# Altium footprint library PH.PcbLib: 64 footprints (part 4 of 4)
Each footprint in its own frame and in the unit in brackets; x right, y up, seen from the top. Pads: shape width x height; smd on the part's side, far side on the other; paste and mask are expansions set on the pad; w line width, h text height; cw(c..) or ccw(c..) is an arc to the next point about the centre after c.
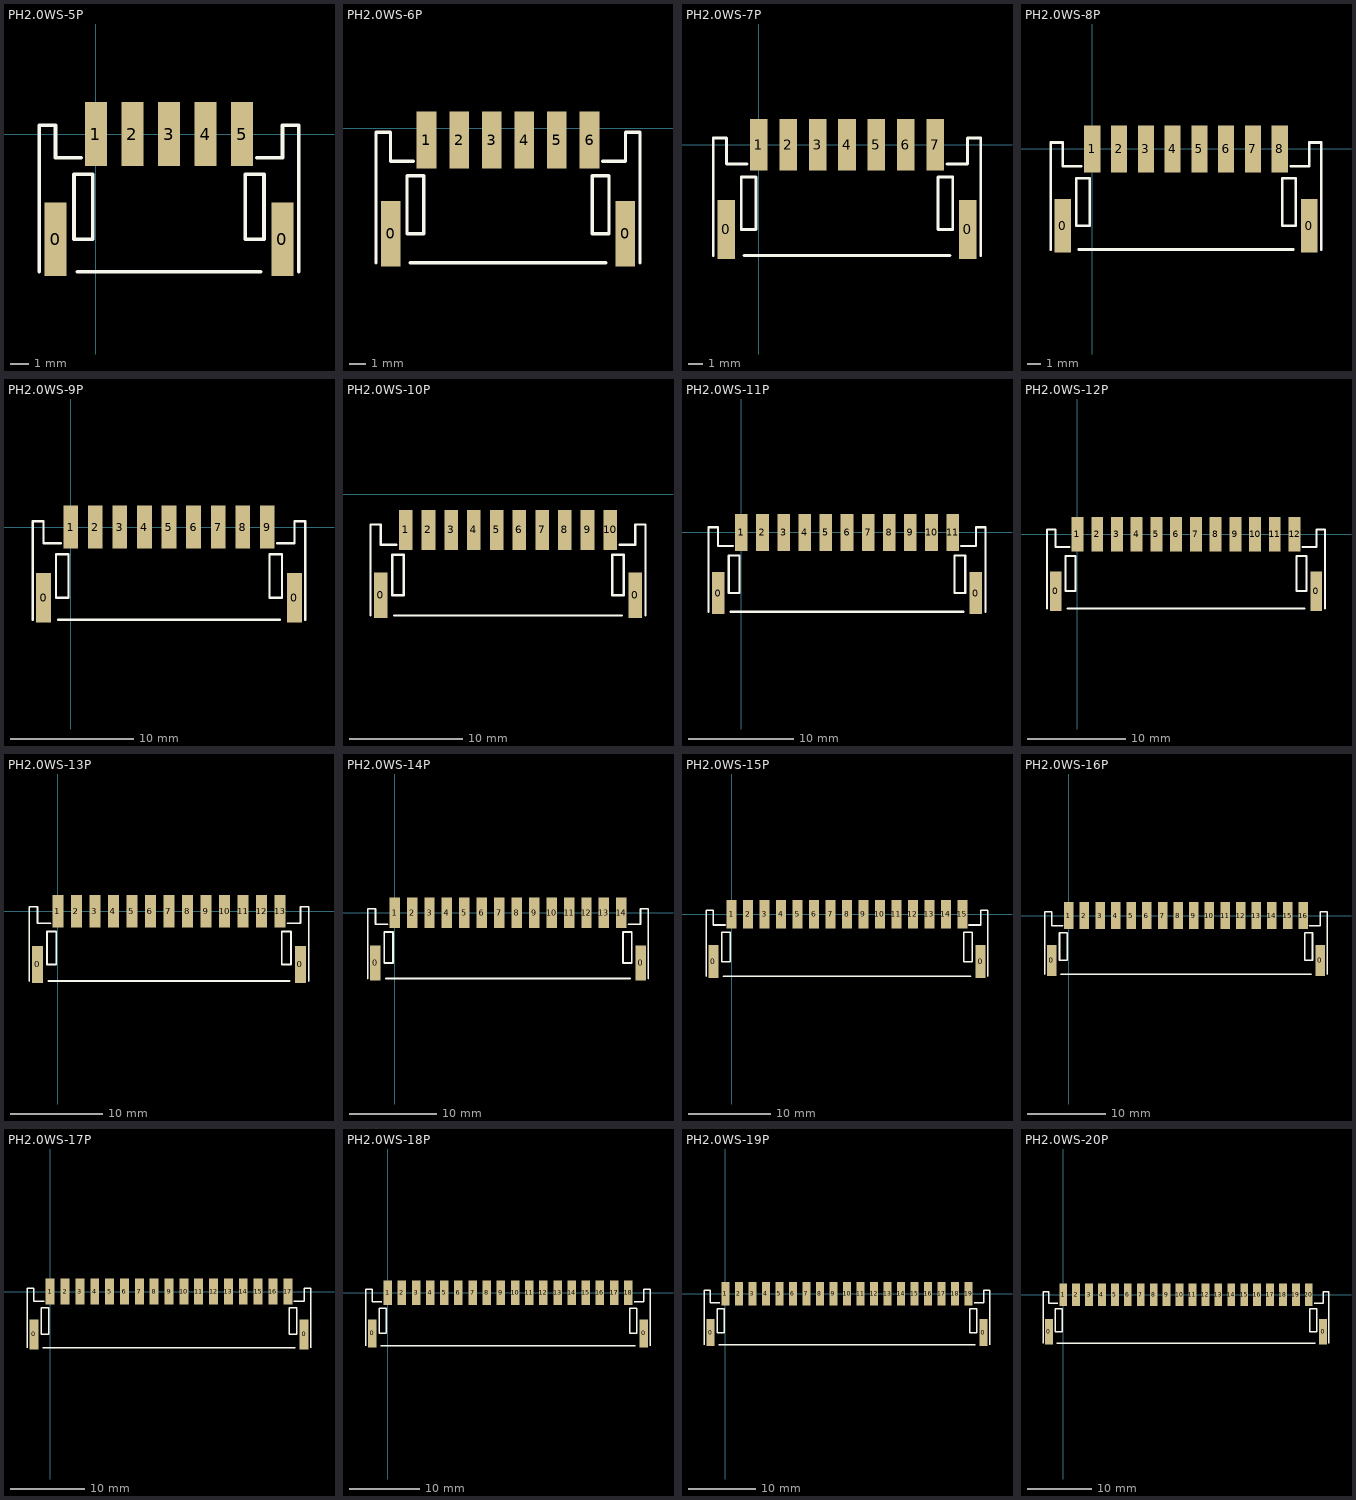
[diagram p3: the footprints below, top view; thin cyan lines are the x and y axes]

## PH2.0WS-5P [mm]
pads (7):
  rect 1.2x4 smd: 0(-2.2,-5.75) 0(10.2,-5.75)
  rect 1.2x3.5 smd: 1(0,0) 2(2,0) 3(4,0) 4(6,0) 5(8,0)
Top Overlay:
  lines w0.2: -3.096,-7.522 -3.096,0.479 -2.207,0.479 -2.207,-1.299 -0.81,-1.299 ; -1,-7.522 9,-7.522 ; 8.81,-1.299 10.207,-1.299 10.207,0.479 11.096,0.479 11.096,-7.522 ; -1.191,-5.744 -1.191,-2.188 -0.175,-2.188 -0.175,-5.744 -1.191,-5.744 ; 8.175,-5.744 8.175,-2.188 9.191,-2.188 9.191,-5.744 8.175,-5.744

## PH2.0WS-6P [mm]
pads (8):
  rect 1.2x4 smd: 0(3.214,-6.483) 0(17.614,-6.483)
  rect 1.2x3.5 smd: 1(5.414,-0.733) 2(7.414,-0.733) 3(9.414,-0.733) 4(11.414,-0.733) 5(13.414,-0.733) 6(15.414,-0.733)
Top Overlay:
  lines w0.2: 2.318,-8.255 2.318,-0.254 3.207,-0.254 3.207,-2.032 4.604,-2.032 ; 4.414,-8.255 16.414,-8.255 ; 16.224,-2.032 17.621,-2.032 17.621,-0.254 18.51,-0.254 18.51,-8.255 ; 4.223,-6.477 5.239,-6.477 5.239,-2.921 4.223,-2.921 4.223,-6.477 ; 15.589,-6.477 16.605,-6.477 16.605,-2.921 15.589,-2.921 15.589,-6.477

## PH2.0WS-7P [mm]
pads (9):
  rect 1.2x4 smd: 0(-2.2,-5.75) 0(14.2,-5.75)
  rect 1.2x3.5 smd: 1(0,0) 2(2,0) 3(4,0) 4(6,0) 5(8,0) 6(10,0) 7(12,0)
Top Overlay:
  lines w0.2: -3.096,-7.522 -3.096,0.479 -2.207,0.479 -2.207,-1.299 -0.81,-1.299 ; -1,-7.522 13,-7.522 ; 12.81,-1.299 14.207,-1.299 14.207,0.479 15.096,0.479 15.096,-7.522 ; -1.191,-5.744 -1.191,-2.188 -0.175,-2.188 -0.175,-5.744 -1.191,-5.744 ; 12.175,-5.744 12.175,-2.188 13.191,-2.188 13.191,-5.744 12.175,-5.744

## PH2.0WS-8P [mm]
pads (10):
  rect 1.2x4 smd: 0(-2.2,-5.75) 0(16.2,-5.75)
  rect 1.2x3.5 smd: 1(0,0) 2(2,0) 3(4,0) 4(6,0) 5(8,0) 6(10,0) 7(12,0) 8(14,0)
Top Overlay:
  lines w0.2: -3.096,-7.522 -3.096,0.479 -2.207,0.479 -2.207,-1.299 -0.81,-1.299 ; -1,-7.522 15,-7.522 ; 14.81,-1.299 16.207,-1.299 16.207,0.479 17.096,0.479 17.096,-7.522 ; -1.191,-5.744 -1.191,-2.188 -0.175,-2.188 -0.175,-5.744 -1.191,-5.744 ; 14.175,-5.744 14.175,-2.188 15.191,-2.188 15.191,-5.744 14.175,-5.744

## PH2.0WS-9P [mm]
pads (11):
  rect 1.2x4 smd: 0(-2.2,-5.75) 0(18.2,-5.75)
  rect 1.2x3.5 smd: 1(0,0) 2(2,0) 3(4,0) 4(6,0) 5(8,0) 6(10,0) 7(12,0) 8(14,0) 9(16,0)
Top Overlay:
  lines w0.2: -3.096,-7.522 -3.096,0.479 -2.207,0.479 -2.207,-1.299 -0.81,-1.299 ; -1,-7.522 17,-7.522 ; 16.81,-1.299 18.207,-1.299 18.207,0.479 19.096,0.479 19.096,-7.522 ; -1.191,-5.744 -1.191,-2.188 -0.175,-2.188 -0.175,-5.744 -1.191,-5.744 ; 16.175,-5.744 16.175,-2.188 17.191,-2.188 17.191,-5.744 16.175,-5.744

## PH2.0WS-10P [mm]
pads (12):
  rect 1.2x4 smd: 0(4.929,-8.896) 0(27.329,-8.896)
  rect 1.2x3.5 smd: 1(7.129,-3.146) 2(9.129,-3.146) 3(11.129,-3.146) 4(13.129,-3.146) 5(15.129,-3.146) 6(17.129,-3.146) 7(19.129,-3.146) 8(21.129,-3.146) 9(23.129,-3.146) 10(25.129,-3.146)
Top Overlay:
  lines w0.2: 4.033,-10.668 4.033,-2.667 4.922,-2.667 4.922,-4.445 6.319,-4.445 ; 6.129,-10.668 26.129,-10.668 ; 25.939,-4.445 27.336,-4.445 27.336,-2.667 28.225,-2.667 28.225,-10.668 ; 5.938,-8.89 5.938,-5.334 6.954,-5.334 6.954,-8.89 5.938,-8.89 ; 25.304,-8.89 25.304,-5.334 26.32,-5.334 26.32,-8.89 25.304,-8.89

## PH2.0WS-11P [mm]
pads (13):
  rect 1.2x4 smd: 0(-2.2,-5.75) 0(22.2,-5.75)
  rect 1.2x3.5 smd: 1(0,0) 2(2,0) 3(4,0) 4(6,0) 5(8,0) 6(10,0) 7(12,0) 8(14,0) 9(16,0) 10(18,0) 11(20,0)
Top Overlay:
  lines w0.2: -3.096,-7.522 -3.096,0.479 -2.207,0.479 -2.207,-1.299 -0.81,-1.299 ; -1,-7.522 21,-7.522 ; 20.81,-1.299 22.207,-1.299 22.207,0.479 23.096,0.479 23.096,-7.522 ; -1.191,-5.744 -0.175,-5.744 -0.175,-2.188 -1.191,-2.188 -1.191,-5.744 ; 20.175,-5.744 21.191,-5.744 21.191,-2.188 20.175,-2.188 20.175,-5.744

## PH2.0WS-12P [mm]
pads (14):
  rect 1.2x4 smd: 0(-2.2,-5.75) 0(24.2,-5.75)
  rect 1.2x3.5 smd: 1(0,0) 2(2,0) 3(4,0) 4(6,0) 5(8,0) 6(10,0) 7(12,0) 8(14,0) 9(16,0) 10(18,0) 11(20,0) 12(22,0)
Top Overlay:
  lines w0.2: -3.096,-7.522 -3.096,0.479 -2.207,0.479 -2.207,-1.299 -0.81,-1.299 ; -1,-7.522 23,-7.522 ; 22.81,-1.299 24.207,-1.299 24.207,0.479 25.096,0.479 25.096,-7.522 ; -1.191,-5.744 -1.191,-2.188 -0.175,-2.188 -0.175,-5.744 -1.191,-5.744 ; 22.175,-5.744 22.175,-2.188 23.191,-2.188 23.191,-5.744 22.175,-5.744

## PH2.0WS-13P [mm]
pads (15):
  rect 1.2x4 smd: 0(-2.2,-5.75) 0(26.2,-5.75)
  rect 1.2x3.5 smd: 1(0,0) 2(2,0) 3(4,0) 4(6,0) 5(8,0) 6(10,0) 7(12,0) 8(14,0) 9(16,0) 10(18,0) 11(20,0) 12(22,0) 13(24,0)
Top Overlay:
  lines w0.2: -3.096,-7.522 -3.096,0.479 -2.207,0.479 -2.207,-1.299 -0.81,-1.299 ; -1,-7.522 25,-7.522 ; 24.81,-1.299 26.207,-1.299 26.207,0.479 27.096,0.479 27.096,-7.522 ; -1.191,-5.744 -0.175,-5.744 -0.175,-2.188 -1.191,-2.188 -1.191,-5.744 ; 24.175,-5.744 25.191,-5.744 25.191,-2.188 24.175,-2.188 24.175,-5.744

## PH2.0WS-14P [mm]
pads (16):
  rect 1.2x4 smd: 0(-2.2,-5.75) 0(28.2,-5.75)
  rect 1.2x3.5 smd: 1(0,0) 2(2,0) 3(4,0) 4(6,0) 5(8,0) 6(10,0) 7(12,0) 8(14,0) 9(16,0) 10(18,0) 11(20,0) 12(22,0) 13(24,0) 14(26,0)
Top Overlay:
  lines w0.2: -3.096,-7.522 -3.096,0.479 -2.207,0.479 -2.207,-1.299 -0.81,-1.299 ; -1,-7.522 27,-7.522 ; 26.81,-1.299 28.207,-1.299 28.207,0.479 29.096,0.479 29.096,-7.522 ; -1.191,-5.744 -1.191,-2.188 -0.175,-2.188 -0.175,-5.744 -1.191,-5.744 ; 26.175,-5.744 26.175,-2.188 27.191,-2.188 27.191,-5.744 26.175,-5.744

## PH2.0WS-15P [mm]
pads (17):
  rect 1.2x4 smd: 0(-2.2,-5.75) 0(30.2,-5.75)
  rect 1.2x3.5 smd: 1(0,0) 2(2,0) 3(4,0) 4(6,0) 5(8,0) 6(10,0) 7(12,0) 8(14,0) 9(16,0) 10(18,0) 11(20,0) 12(22,0) 13(24,0) 14(26,0) 15(28,0)
Top Overlay:
  lines w0.2: -3.096,-7.522 -3.096,0.479 -2.207,0.479 -2.207,-1.299 -0.81,-1.299 ; -1,-7.522 29,-7.522 ; 28.81,-1.299 30.207,-1.299 30.207,0.479 31.096,0.479 31.096,-7.522 ; -1.191,-5.744 -0.175,-5.744 -0.175,-2.188 -1.191,-2.188 -1.191,-5.744 ; 28.175,-5.744 29.191,-5.744 29.191,-2.188 28.175,-2.188 28.175,-5.744

## PH2.0WS-16P [mm]
pads (18):
  rect 1.2x4 smd: 0(-2.2,-5.75) 0(32.2,-5.75)
  rect 1.2x3.5 smd: 1(0,0) 2(2,0) 3(4,0) 4(6,0) 5(8,0) 6(10,0) 7(12,0) 8(14,0) 9(16,0) 10(18,0) 11(20,0) 12(22,0) 13(24,0) 14(26,0) 15(28,0) 16(30,0)
Top Overlay:
  lines w0.2: -3.096,-7.522 -3.096,0.479 -2.207,0.479 -2.207,-1.299 -0.81,-1.299 ; -1,-7.522 31,-7.522 ; 30.81,-1.299 32.207,-1.299 32.207,0.479 33.096,0.479 33.096,-7.522 ; -1.191,-5.744 -1.191,-2.188 -0.175,-2.188 -0.175,-5.744 -1.191,-5.744 ; 30.175,-5.744 30.175,-2.188 31.191,-2.188 31.191,-5.744 30.175,-5.744

## PH2.0WS-17P [mm]
pads (19):
  rect 1.2x4 smd: 0(-2.2,-5.75) 0(34.2,-5.75)
  rect 1.2x3.5 smd: 1(0,0) 2(2,0) 3(4,0) 4(6,0) 5(8,0) 6(10,0) 7(12,0) 8(14,0) 9(16,0) 10(18,0) 11(20,0) 12(22,0) 13(24,0) 14(26,0) 15(28,0) 16(30,0) 17(32,0)
Top Overlay:
  lines w0.2: -3.096,-7.522 -3.096,0.479 -2.207,0.479 -2.207,-1.299 -0.81,-1.299 ; -1,-7.522 33,-7.522 ; 32.81,-1.299 34.207,-1.299 34.207,0.479 35.096,0.479 35.096,-7.522 ; -1.191,-5.744 -0.175,-5.744 -0.175,-2.188 -1.191,-2.188 -1.191,-5.744 ; 32.175,-5.744 33.191,-5.744 33.191,-2.188 32.175,-2.188 32.175,-5.744
3D body "PH2.0-WS-17P.STEP": height 5.55, standoff 0.05, extent -2.923,-7.395 35.077,1.205

## PH2.0WS-18P [mm]
pads (20):
  rect 1.2x4 smd: 0(-2.2,-5.75) 0(36.2,-5.75)
  rect 1.2x3.5 smd: 1(0,0) 2(2,0) 3(4,0) 4(6,0) 5(8,0) 6(10,0) 7(12,0) 8(14,0) 9(16,0) 10(18,0) 11(20,0) 12(22,0) 13(24,0) 14(26,0) 15(28,0) 16(30,0) 17(32,0) 18(34,0)
Top Overlay:
  lines w0.2: -3.096,-7.522 -3.096,0.479 -2.207,0.479 -2.207,-1.299 -0.81,-1.299 ; -1,-7.522 35,-7.522 ; 34.81,-1.299 36.207,-1.299 36.207,0.479 37.096,0.479 37.096,-7.522 ; -1.191,-5.744 -1.191,-2.188 -0.175,-2.188 -0.175,-5.744 -1.191,-5.744 ; 34.175,-5.744 34.175,-2.188 35.191,-2.188 35.191,-5.744 34.175,-5.744

## PH2.0WS-19P [mm]
pads (21):
  rect 1.2x4 smd: 0(-2.2,-5.75) 0(38.2,-5.75)
  rect 1.2x3.5 smd: 1(0,0) 2(2,0) 3(4,0) 4(6,0) 5(8,0) 6(10,0) 7(12,0) 8(14,0) 9(16,0) 10(18,0) 11(20,0) 12(22,0) 13(24,0) 14(26,0) 15(28,0) 16(30,0) 17(32,0) 18(34,0) 19(36,0)
Top Overlay:
  lines w0.2: -3.096,-7.522 -3.096,0.479 -2.207,0.479 -2.207,-1.299 -0.81,-1.299 ; -1,-7.522 37,-7.522 ; 36.81,-1.299 38.207,-1.299 38.207,0.479 39.096,0.479 39.096,-7.522 ; -1.191,-5.744 -1.191,-2.188 -0.175,-2.188 -0.175,-5.744 -1.191,-5.744 ; 36.175,-5.744 36.175,-2.188 37.191,-2.188 37.191,-5.744 36.175,-5.744

## PH2.0WS-20P [mm]
pads (22):
  rect 1.2x4 smd: 0(-2.2,-5.75) 0(40.2,-5.75)
  rect 1.2x3.5 smd: 1(0,0) 2(2,0) 3(4,0) 4(6,0) 5(8,0) 6(10,0) 7(12,0) 8(14,0) 9(16,0) 10(18,0) 11(20,0) 12(22,0) 13(24,0) 14(26,0) 15(28,0) 16(30,0) 17(32,0) 18(34,0) 19(36,0) 20(38,0)
Top Overlay:
  lines w0.2: -3.096,-7.522 -3.096,0.479 -2.207,0.479 -2.207,-1.299 -0.81,-1.299 ; -1,-7.522 39,-7.522 ; 38.81,-1.299 40.207,-1.299 40.207,0.479 41.096,0.479 41.096,-7.522 ; -1.191,-5.744 -1.191,-2.188 -0.175,-2.188 -0.175,-5.744 -1.191,-5.744 ; 38.175,-5.744 38.175,-2.188 39.191,-2.188 39.191,-5.744 38.175,-5.744